# EAGLE library part TL7660 (library texas)
CMOS VOLTAGE CONVERTER Source: http://focus.ti.com/lit/ds/scas794/scas794.pdf
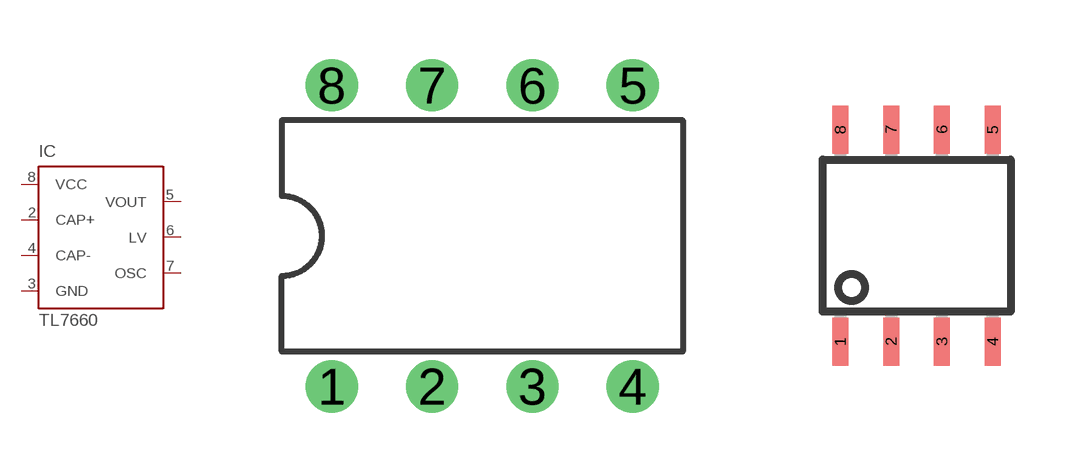
[diagram p88: symbol with the pads of DIL08; footprints DIL08, D_R-PDSO-G08]

Designator prefix IC

## TL7660P  [DIL08]
2  CAP+  pas
3  GND  pwr
4  CAP-  pas
5  VOUT  pas
6  LV  pas
7  OSC  in
8  VCC  pwr

## TL7660D  [D_R-PDSO-G08]
Pads as for DIL08

## TL7660DGK  [DGK_S-PDSO-G8]
Pads as for DIL08

## Footprint DIL08 (pad centres in mm)
Dual In Line Package
drill 0.813 pad 1.27 round: 1 -3.81,-3.81; 2 -1.27,-3.81; 3 1.27,-3.81; 4 3.81,-3.81; 5 3.81,3.81; 6 1.27,3.81; 7 -1.27,3.81; 8 -3.81,3.81

## Footprint D_R-PDSO-G08 (pad centres in mm)
PLASTIC SMALL-OUTLINE PACKAGE SO 14 JEDEC MS-012, D Type Source: www.ti.com/.. slvs087l.pdf
smd 0.4 x 1.2: 1 -1.905,-2.65; 2 -0.635,-2.65; 3 0.635,-2.65; 4 1.905,-2.65; 5 1.905,2.65; 6 0.635,2.65; 7 -0.635,2.65; 8 -1.905,2.65

## Footprint DGK_S-PDSO-G8 (pad centres in mm)
DGK (S-PDSO-G8) Source: http://focus.ti.com/lit/ds/scas794/scas794.pdf
smd 0.4 x 1: 1 -0.975,-2.2; 2 -0.325,-2.2; 3 0.325,-2.2; 4 0.975,-2.2; 5 0.975,2.2; 6 0.325,2.2; 7 -0.325,2.2; 8 -0.975,2.2